# EAGLE library part TP4056 (library power)
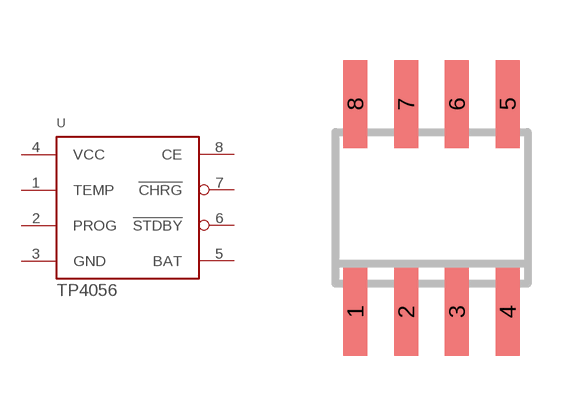
[diagram p0: symbol with the pads of SO8; footprint SO8]

Designator prefix -

## TP4056  [SO8]
1  TEMP
2  PROG
3  GND
4  VCC
5  BAT
6  !STDBY!
7  !CHRG!
8  CE

## Footprint SO8 (pad centres in mm)
SMALL OUTLINE INTEGRATED CIRCUIT SOP-8L Source: http://www.diodes.com/datasheets/ds31262.pdf
smd 0.6 x 2.2: 1 -1.905,-2.6; 2 -0.635,-2.6; 3 0.635,-2.6; 4 1.905,-2.6; 5 1.905,2.6; 6 0.635,2.6; 7 -0.635,2.6; 8 -1.905,2.6